# EAGLE library part AUIRF7343Q (library International_Rectifier_By_element14_Batch_1)
AUTOMOTIVE MOSFET
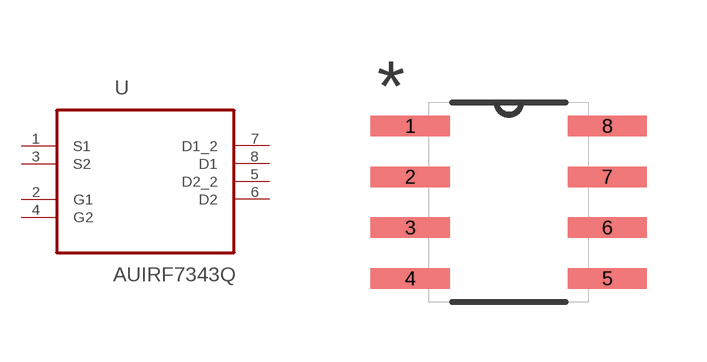
[diagram p1: symbol with the pads of SOIC127P600X175-8N; footprint SOIC127P600X175-8N]

Designator prefix U

## AUIRF7343Q (MPN: AUIRF7343Q; OC_FARNELL: 1865606; OC_NEWARK: 41T2748; PACKAGE: SOIC-8; SUPPLIER: INTERNATIONAL RECTIFIER)  [SOIC127P600X175-8N]
1  S1  pas
2  G1  pas
3  S2  pas
4  G2  pas
5  D2_2  pas
6  D2  pas
7  D1_2  pas
8  D1  pas

## Footprint SOIC127P600X175-8N (pad centres in mm)
smd 1.981 x 0.508: 1 -2.464,1.905; 2 -2.464,0.635; 3 -2.464,-0.635; 4 -2.464,-1.905; 5 2.464,-1.905; 6 2.464,-0.635; 7 2.464,0.635; 8 2.464,1.905